# Altium integrated library Posser_libray.IntLib: 14 symbols
Pins are listed as number, name and electrical type; pins without a type are passive.

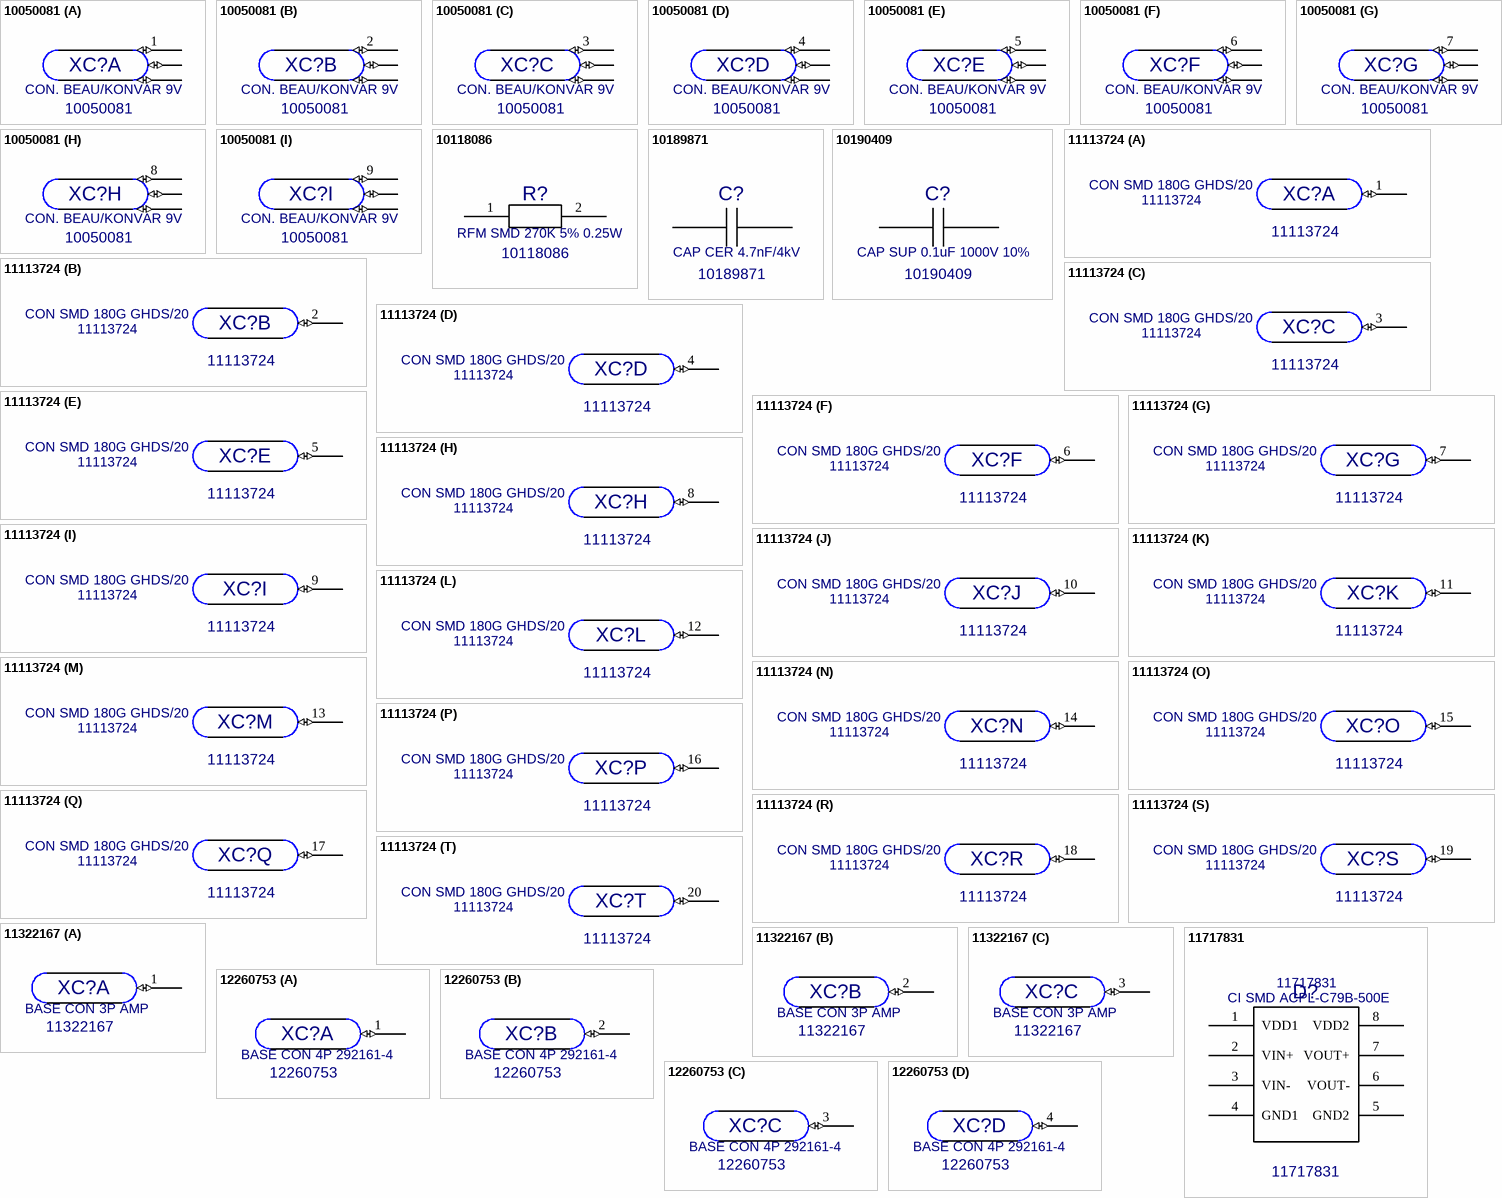
[diagram p0: symbols 10050081 to 12260753]

## 10050081
designator XC?  value CON. BEAU/KONVAR 9V
CON. BEAU/KONVAR 9V; HISsym: Atualizado em 06/07/05; HISitem: Alterado pattern em 12/08/10 (p/ Sandro W.); PMT: THT; PN: 10050081
footprint CON BEAU/KONVAR 9V
part A pins: 1 P1 (io), 10 P1 (io), 19 P1 (io)
part B pins: 2 P1 (io), 11 P1 (io), 20 P1 (io)
part C pins: 3 P1 (io), 12 P1 (io), 21 P1 (io)
part D pins: 4 P1 (io), 13 P1 (io), 22 P1 (io)
part E pins: 5 P1 (io), 14 P1 (io), 23 P1 (io)
part F pins: 6 P1 (io), 15 P1 (io), 24 P1 (io)
part G pins: 7 P1 (io), 16 P1 (io), 25 P1 (io)
part H pins: 8 P1 (io), 17 P1 (io), 26 P1 (io)
part I pins: 9 P1 (io), 18 P1 (io), 27 P1 (io)

## 10118086
designator R?  value RFM SMD 270K 5% 0.25W
RFM SMD 270K 5% 0.25W; HISsym: Atualizado em 20/07/05; HISitem: Criado em 07/12/06; PMT: SMD; PN: 10118086
footprint R1206_Primary
footprint R1206_R1206-BOT
pins: 1, 2

## 10189871
designator C?  value CAP CER 4.7nF/4kV
CAP CER 4.7NF 4KV; HISsym: Atualizado em 11/07/05; NTOL: 20%; PMT: THT; PN: 10189871
footprint C 0.8 10.16 16.5 3.8_Isolacao
footprint C 0.8 10.16 16.5 3.8_Primary
footprint C 0.8 10.16 16.5 3.8_SCA06
pins: 1, 2, 3 hidden, 4 hidden, 5 hidden, 6 hidden

## 10190409
designator C?  value CAP SUP 0.1uF 1000V 10%
CAP SUP 0.1uF 1000V 10%; HISsym: Atualizado em 11/07/05; HISitem: Criado em 18/10/05; Altura: 17,5mm; PMT: THT; PN: 10190409
footprint C 1.1 15 18 9
pins: 1, 2

## 11113724
designator XC?  value CON SMD 180G GHDS/20
CON SMD 180G GHDS/20; HISsym: Atualizado em 16/01/06; HISitem: Criado em 10/03/09 (p/ Emilio); Altura: 5mm; PN: 11113724
footprint CON GHD 180G 20V
pins on every part: 21 hidden, 22 hidden
part A pins: 1 P1 (io)
part B pins: 2 P1 (io)
part C pins: 3 P1 (io)
part D pins: 4 P1 (io)
part E pins: 5 P1 (io)
part F pins: 6 P1 (io)
part G pins: 7 P1 (io)
part H pins: 8 P1 (io)
part I pins: 9 P1 (io)
part J pins: 10 P1 (io)
part K pins: 11 P1 (io)
part L pins: 12 P1 (io)
part M pins: 13 P1 (io)
part N pins: 14 P1 (io)
part O pins: 15 P1 (io)
part P pins: 16 P1 (io)
part Q pins: 17 P1 (io)
part R pins: 18 P1 (io)
part S pins: 19 P1 (io)
part T pins: 20 P1 (io)

## 11322167
designator XC?  value BASE CON 3P AMP
BASE CON 3P AMP; HISsym: Atualizado em 06/07/05; HISitem: Criado em 09/10/08 (p/ Geovani); Altura: 6,8mm; PMT: THT; PN: 11322167
footprint CON AMP 3V 180G
part A pins: 1 P1 (io)
part B pins: 2 P1 (io)
part C pins: 3 P1 (io)

## 11717831
designator D?  value CI SMD ACPL-C79B-500E
CI SMD ACPL-C79B-500E; HISitem: Criado em 29/03/11 (p/ Sandro W.); PN: 11717831
footprint SSO-8_Primary
footprint SSO-8_SOP8-BOT
pins: 1 VDD1, 2 VIN+, 3 VIN-, 4 GND1, 5 GND2, 6 VOUT-, 7 VOUT+, 8 VDD2

## 12260753
designator XC?  value BASE CON 4P 292161-4
BASE CON 4P 292161-4; HISsym: Atualizado em 06/07/05; HISitem: Criado em 05/11/12 (p/ Cesar); Altura: 6,8mm; PMT: THT; PN: 12260753
footprint CON 292161-4
part A pins: 1 P1 (io)
part B pins: 2 P1 (io)
part C pins: 3 P1 (io)
part D pins: 4 P1 (io)

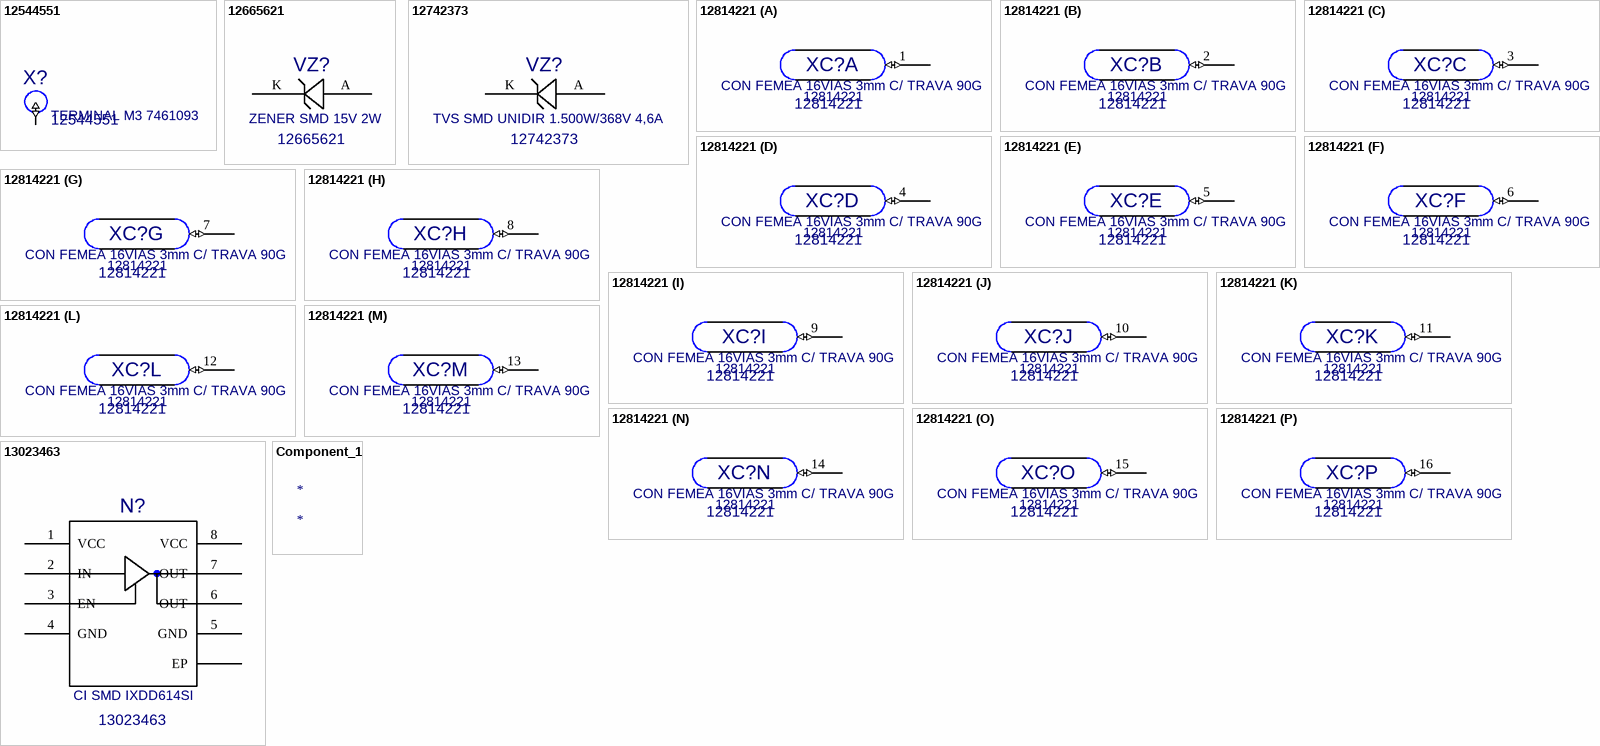
[diagram p1: symbols 12544551 to Component_1]

## 12544551
designator X?  value TERMINAL M3 7461093
TERMINAL M3 7461093; HISitem: Criado em 27/05/13 (p/ Edson H.) Alt. furação p/ 1,475mm em 03/02/15; Altura: 6mm; PMT: MEC; PN: 12544551
footprint TERMINAL M3 7461093
pins: 1 (io), 2 (io), 3 (io), 4 (io), 5 (io), 6 (io), 7 (io), 8 (io), 9 (io)

## 12665621
designator VZ?  value ZENER SMD 15V 2W
ZENER SMD 15V 2W; HISsym: Atualizado em 11/07/06; HISitem: Criado em 13/12/13 (p/ Sandro W.); PN: 12665621; PMT: SMD
footprint DO-214AC_12665621(DO-214AC-LS)
footprint DO-214AC_12665621(Primary)
pins: A, K

## 12742373
designator VZ?  value TVS SMD UNIDIR 1.500W/368V 4,6A
TVS SMD UNIDIR 1.500W/368V 4,6A; HISsym: Atualizado em 11/07/06; HISitem: Criado em 13/03/14 (p/ Joice); PN: 12742373; PMT: SMD
footprint SMC_12742373(Primary)
footprint SMC_12742373(SMC-LS)
pins: A, K

## 12814221
designator XC?  value CON FEMEA 16VIAS 3mm C/ TRAVA 90G
CON FEMEA 16VIAS 3mm C/ TRAVA 90G; HISsym: Atualizado em 06/07/05; HISitem: Criado em 23/05/14 (p/ Joice); Altura: 8,8mm; PMT: THT; PN: 12814221
footprint CON SD-43045-1600
pins on every part: 17 hidden, 18 hidden
part A pins: 1 P1 (io)
part B pins: 2 P1 (io)
part C pins: 3 P1 (io)
part D pins: 4 P1 (io)
part E pins: 5 P1 (io)
part F pins: 6 P1 (io)
part G pins: 7 P1 (io)
part H pins: 8 P1 (io)
part I pins: 9 P1 (io)
part J pins: 10 P1 (io)
part K pins: 11 P1 (io)
part L pins: 12 P1 (io)
part M pins: 13 P1 (io)
part N pins: 14 P1 (io)
part O pins: 15 P1 (io)
part P pins: 16 P1 (io)

## 13023463
designator N?  value CI SMD IXDD614SI
CI SMD IXDD614SI; HISitem: Criado em 29/09/14 (p/ Pablo); PN: 13023463; PMT: SMD
footprint SOIC8-EP
pins: 1 VCC, 2 IN, 3 EN, 4 GND, 5 GND, 6 OUT, 7 OUT, 8 VCC, 9 EP, 10 hidden, 11 hidden, 12 hidden, 13 hidden, 14 hidden

## Component_1
designator *